# EAGLE library part IRC-A1 (library iRC-A1)
Alpha sense IRC-A1 infrared CO2 sensor
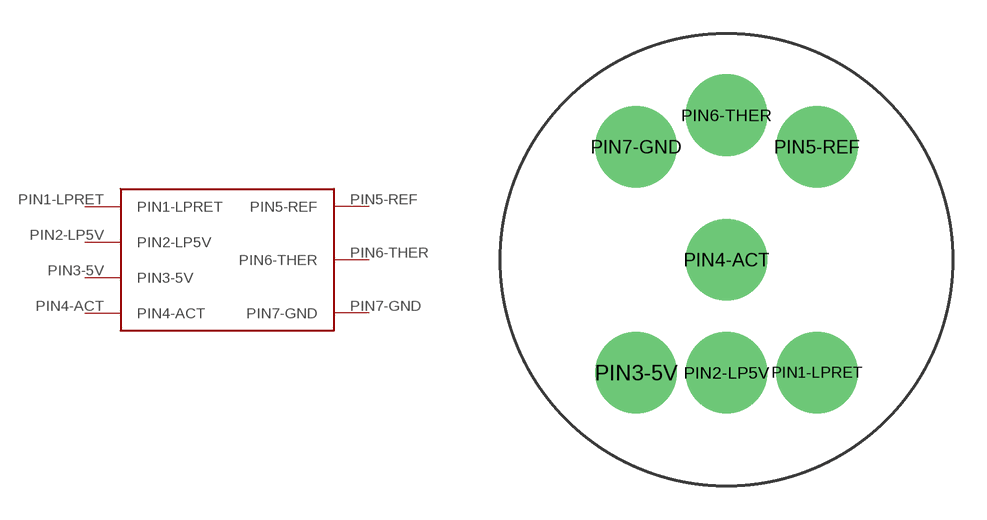
[diagram p0: symbol with the pads of ALPHASENSE; footprint ALPHASENSE]

Designator prefix -

## IRC-A1  [ALPHASENSE]
PIN1-LPRET  PIN1-LPRET
PIN2-LP5V  PIN2-LP5V
PIN3-5V  PIN3-5V
PIN4-ACT  PIN4-ACT
PIN5-REF  PIN5-REF
PIN6-THER  PIN6-THER
PIN7-GND  PIN7-GND

## Footprint ALPHASENSE (pad centres in mm)
ALPHA SENSE NDIR-CO2 IRC A1 125375813 073
drill 2.6: PIN1-LPRET 14,5; PIN2-LP5V 10,5; PIN3-5V 6,5; PIN4-ACT 10,10; PIN5-REF 14,15; PIN6-THER 10,16.4; PIN7-GND 6,15